# Altium footprint library 5.1pF_capacitor_0805_Components - 15.03.22 - 13.02.PcbLib: 3 footprints
Each footprint in its own frame and in the unit in brackets; x right, y up, seen from the top. Pads: shape width x height; smd on the part's side, far side on the other; paste and mask are expansions set on the pad; w line width, h text height; cw(c..) or ccw(c..) is an arc to the next point about the centre after c.
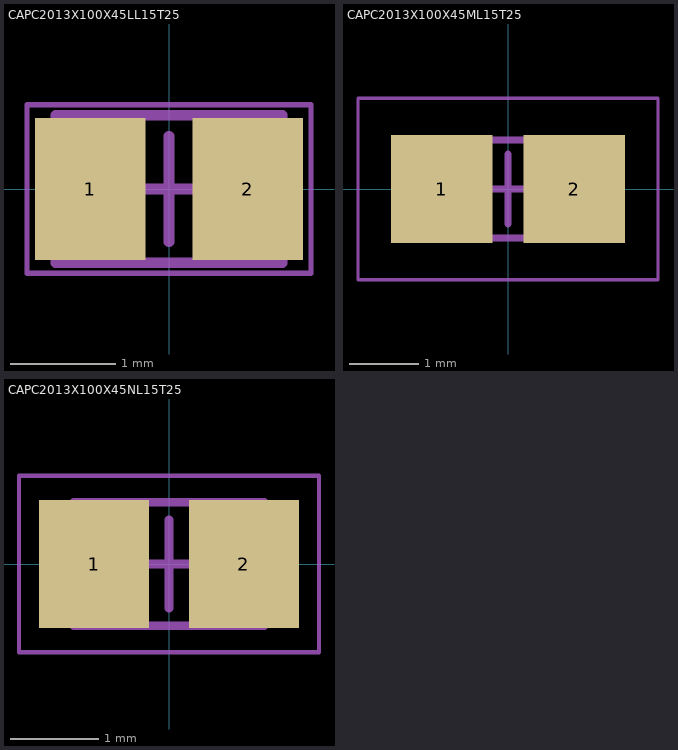
[diagram p0: the footprints below, top view; thin cyan lines are the x and y axes]

## CAPC2013X100X45LL15T25 [mm] "Chip Capacitor, 2-Leads, Body 2.00x1.25mm, IPC High Density"
height 1
pads (2):
  rect 1.05x1.35 smd: 1(-0.75,0) 2(0.75,0)
Mechanical 13:
  lines w0.1: -1.075,-0.7 -1.075,0.7 1.075,0.7 1.075,-0.7 -1.075,-0.7
Mechanical 15:
  lines w0.05: -1.35,-0.8 -1.35,0.8 1.35,0.8 1.35,-0.8 -1.35,-0.8
  lines w0.1: -0.5,0 0.5,0 ; 0,-0.5 0,0.5
3D body: height 1, standoff 0, extent -0.625,-0.7 0.625,0.7
3D body: height 1, standoff 0, extent -1.075,-0.7 -0.625,0.7
3D body: height 1, standoff 0, extent 0.625,-0.7 1.075,0.7

## CAPC2013X100X45ML15T25 [mm] "Chip Capacitor, 2-Leads, Body 2.00x1.25mm, IPC Low Density"
height 1
pads (2):
  rect 1.45x1.55 smd: 1(-0.95,0) 2(0.95,0)
Mechanical 13:
  lines w0.1: -1.075,-0.7 -1.075,0.7 1.075,0.7 1.075,-0.7 -1.075,-0.7
Mechanical 15:
  lines w0.05: -2.15,-1.3 -2.15,1.3 2.15,1.3 2.15,-1.3 -2.15,-1.3
  lines w0.1: -0.5,0 0.5,0 ; 0,-0.5 0,0.5
3D body: height 1, standoff 0, extent -0.625,-0.7 0.625,0.7
3D body: height 1, standoff 0, extent -1.075,-0.7 -0.625,0.7
3D body: height 1, standoff 0, extent 0.625,-0.7 1.075,0.7

## CAPC2013X100X45NL15T25 [mm] "Chip Capacitor, 2-Leads, Body 2.00x1.25mm, IPC Medium Density"
height 1
pads (2):
  rect 1.25x1.45 smd: 1(-0.85,0) 2(0.85,0)
Mechanical 13:
  lines w0.1: -1.075,-0.7 -1.075,0.7 1.075,0.7 1.075,-0.7 -1.075,-0.7
Mechanical 15:
  lines w0.05: -1.7,-1 -1.7,1 1.7,1 1.7,-1 -1.7,-1
  lines w0.1: -0.5,0 0.5,0 ; 0,-0.5 0,0.5
3D body: height 1, standoff 0, extent -0.625,-0.7 0.625,0.7
3D body: height 1, standoff 0, extent -1.075,-0.7 -0.625,0.7
3D body: height 1, standoff 0, extent 0.625,-0.7 1.075,0.7